# Altium footprint library 533750210.PcbLib: 1 footprints
Each footprint in its own frame and in the unit in brackets; x right, y up, seen from the top. Pads: shape width x height; smd on the part's side, far side on the other; paste and mask are expansions set on the pad; w line width, h text height; cw(c..) or ccw(c..) is an arc to the next point about the centre after c.
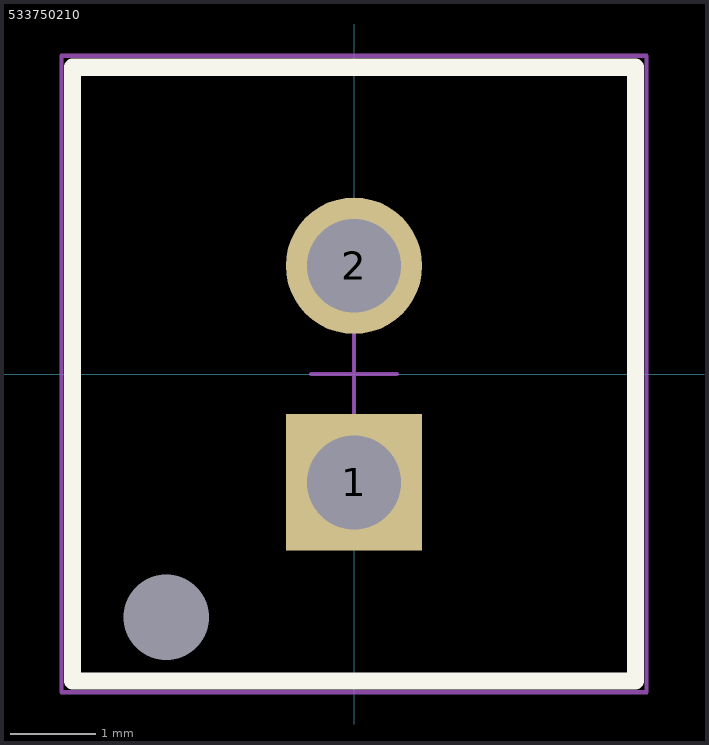
[diagram p0: the footprint, top view; thin cyan lines are the x and y axes]

## 533750210 [mm] "2 Curcuits Mini-Lock PCB Header"
height 11.5
pads (3):
  rect 1.6x1.6 hole 1.1: 1(0,-1.27)
  round 1.6 hole 1.1: 2(0,1.27)
  round 0 hole 1 unplated: ""(-2.201,-2.853)
Top Overlay:
  lines w0.2: -3.302,-3.6 3.302,-3.6 3.302,3.598 -3.302,3.598 -3.302,-3.6
Mechanical 15:
  lines w0.05: -0.5,0 0.5,0 ; 0,-0.5 0,0.5 ; -3.429,-3.73 3.429,-3.73 3.429,3.732 -3.429,3.732 -3.429,-3.73
3D body "533750210.stp": height 11.55, standoff -3.38, extent -3.4,-3.7 3.4,3.7